# Altium integrated library LMR10510.IntLib: 6 symbols
Pins are listed as number, name and electrical type; pins without a type are passive.

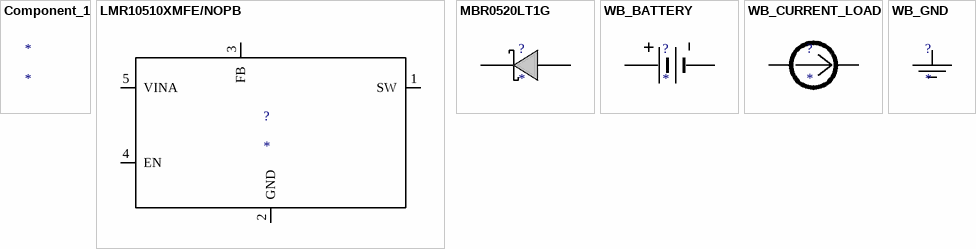
[diagram p0: symbols Component_1 to WB_GND]

## Component_1
designator *

## LMR10510XMFE/NOPB
designator ?
Imported; Frequency: 3000000.0; Imax: 1.0; Mktg_Package: NA; NSID: LMR10510XMFE/NOPB; Vendor: Texas Instruments; Datasheet URL: http://www.ti.com/product/lmr10510; Package: NA; Manufacturer_Part_Number: LMR10510XMFE/NOPB; Manufacturer_Name: Texas Instruments; RefDes: RefDes; Type: DEV; Value: Value
footprint DBV0005A
pins: 1 SW, 2 GND, 3 FB, 4 EN, 5 VINA

## MBR0520LT1G
designator ?
Imported; Manufacturer_Part_Number: MBR0520LT1G; Vendor: ON Semiconductor; Datasheet URL: http://www.onsemi.com/pub%5Flink/Collateral/MBR0520LT1%2DD.PDF; Manufacturer_Name: ON Semiconductor; RefDes: RefDes; Type: DEV; Value: Value
footprint SOD-123
pins: 1 K, 2 A

## WB_BATTERY
designator ?
Imported; Manufacturer_Part_Number: WB_BATTERY; PowerPortType: POWER_GROUND; Value: Value; Manufacturer_Name: WB_BATTERY; RefDes: RefDes; Type: TYPE
pins: 1 +, 2 -

## WB_CURRENT_LOAD
designator ?
Imported; Manufacturer_Part_Number: WB_CURRENT_LOAD; PowerPortType: POWER_GROUND; Value: Value; Manufacturer_Name: WB_CURRENT_LOAD; RefDes: RefDes; Type: TYPE
pins: 1 +, 2 -

## WB_GND
designator ?
Imported; Manufacturer_Part_Number: WB_GND; PowerPortType: POWER_GROUND; Value: Value; Manufacturer_Name: WB_GND; RefDes: RefDes; Type: TYPE
pins: 1